# Altium footprint library CONN_ETHERNET.PcbLib: 2 footprints
Each footprint in its own frame and in the unit in brackets; x right, y up, seen from the top. Pads: shape width x height; smd on the part's side, far side on the other; paste and mask are expansions set on the pad; w line width, h text height; cw(c..) or ccw(c..) is an arc to the next point about the centre after c.
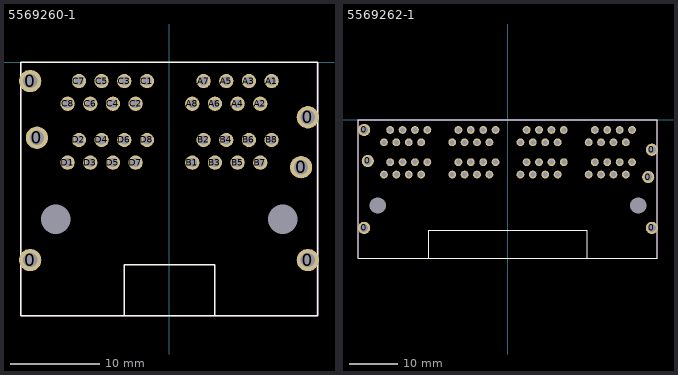
[diagram p0: the footprints below, top view; thin cyan lines are the x and y axes]

## 5569260-1 [mm]
pads (40):
  round 2.5 hole 1.6: 0(-15.59,-22.17) 0(-15.59,-2.11) 0(-14.83,-8.46) 0(14.77,-11.76) 0(15.53,-22.17) 0(15.53,-6.17)
  round 0 hole 3.3: 1(-12.7,-17.6) 2(12.74,-17.6)
  round 1.6 hole 1: A1(11.47,-2.11) A2(10.2,-4.65) A3(8.93,-2.11) A4(7.66,-4.65) A5(6.39,-2.11) A6(5.12,-4.65) A7(3.85,-2.11) A8(2.58,-4.65) B1(2.58,-11.25) B2(3.85,-8.71) B3(5.12,-11.25) B4(6.39,-8.71) B5(7.66,-11.25) B6(8.93,-8.71) B7(10.2,-11.25) B8(11.47,-8.71) C1(-2.5,-2.11) C2(-3.77,-4.65) C3(-5.04,-2.11) C4(-6.31,-4.65) C5(-7.58,-2.11) C6(-8.85,-4.65) C7(-10.12,-2.11) C8(-11.39,-4.65) D1(-11.39,-11.25) D2(-10.12,-8.71) D3(-8.85,-11.25) D4(-7.58,-8.71) D5(-6.31,-11.25) D6(-5.04,-8.71) D7(-3.77,-11.25) D8(-2.5,-8.71)
Top Overlay:
  lines w0.15: -5.05,-28.41 -5.05,-22.68 5.1,-22.68 5.1,-28.41 ; -16.65,-28.4 16.65,-28.4 16.65,0 -16.65,0 -16.65,-28.4
Mechanical 14:
  lines w0.1: -16.6,-28.4 -16.6,0 16.6,0 16.6,-28.4 -16.6,-28.4
  text ".Designator" at -4.8,-18.8 h4
3D body "5569260-1.stp": height 26.35, standoff -4, extent -16.587,-28.448 16.687,0

## 5569262-1 [mm]
pads (72):
  round 2.5 hole 1.6: 0(-29.44,-22.17) 0(-29.44,-2.11) 0(-28.68,-8.46) 0(28.72,-11.76) 0(29.48,-22.17) 0(29.48,-6.17)
  round 0 hole 3.3: 1(-26.65,-17.6) 2(26.69,-17.6)
  round 1.6 hole 1: A1(25.42,-2.11) A2(24.15,-4.65) A3(22.88,-2.11) A4(21.61,-4.65) A5(20.34,-2.11) A6(19.07,-4.65) A7(17.8,-2.11) A8(16.53,-4.65) B1(16.53,-11.25) B2(17.8,-8.71) B3(19.07,-11.25) B4(20.34,-8.71) B5(21.61,-11.25) B6(22.88,-8.71) B7(24.15,-11.25) B8(25.42,-8.71) C1(11.45,-2.11) C2(10.18,-4.65) C3(8.91,-2.11) C4(7.64,-4.65) C5(6.37,-2.11) C6(5.1,-4.65) C7(3.83,-2.11) C8(2.56,-4.65) D1(2.56,-11.25) D2(3.83,-8.71) D3(5.1,-11.25) D4(6.37,-8.71) D5(7.64,-11.25) D6(8.91,-8.71) D7(10.18,-11.25) D8(11.45,-8.71) E1(-2.52,-2.11) E2(-3.79,-4.65) E3(-5.06,-2.11) E4(-6.33,-4.65) E5(-7.6,-2.11) E6(-8.87,-4.65) E7(-10.14,-2.11) E8(-11.41,-4.65) F1(-11.41,-11.25) F2(-10.14,-8.71) F3(-8.87,-11.25) F4(-7.6,-8.71) F5(-6.33,-11.25) F6(-5.06,-8.71) F7(-3.79,-11.25) F8(-2.52,-8.71) G1(-16.49,-2.11) G2(-17.76,-4.65) G3(-19.03,-2.11) G4(-20.3,-4.65) G5(-21.57,-2.11) G6(-22.84,-4.65) G7(-24.11,-2.11) G8(-25.38,-4.65) H1(-25.38,-11.25) H2(-24.11,-8.71) H3(-22.84,-11.25) H4(-21.57,-8.71) H5(-20.3,-11.25) H6(-19.03,-8.71) H7(-17.76,-11.25) H8(-16.49,-8.71)
Top Overlay:
  lines w0.15: -16.18,-28.41 -16.18,-22.68 16.22,-22.68 16.22,-28.41 ; -30.6,-28.4 -30.6,0 30.6,0 30.6,-28.4 -30.6,-28.4
Mechanical 14:
  lines w0.1: -30.6,-28.4 -30.6,0 30.6,0 30.6,-28.4 -30.6,-28.4
  text ".Designator" at -3,-18.1 h4
3D body "5569262-1.stp": height 26.35, standoff -4, extent -30.607,-28.448 30.607,0